# EAGLE library part MOLEX-53780-0670 (library con-Molex-53780)
Molex 53780 8-way right-angle SMD
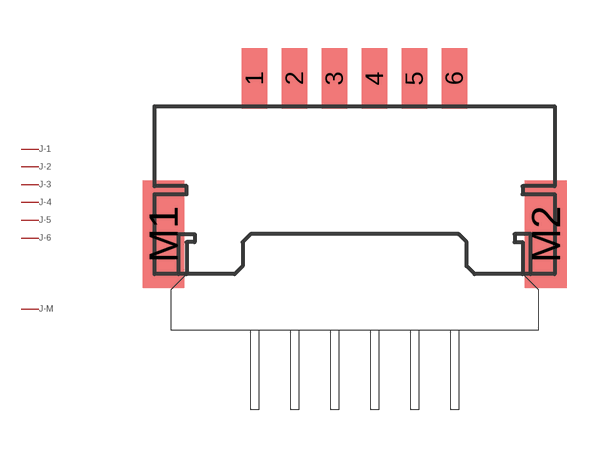
[diagram p2: symbol with the pads of 53780-0670; footprint 53780-0670]

Designator prefix J; gates -1=PIN -2=PIN -3=PIN -4=PIN -5=PIN -6=PIN -M=PIN

## MOLEX-53780-0670  [53780-0670]
1  -1:P
2  -2:P
3  -3:P
4  -4:P
5  -5:P
6  -6:P
M1  -M:P
M2  -M:P

## Footprint 53780-0670 (pad centres in mm)
smd 0.8 x 1.9: 1 -3.125,4.875; 2 -1.875,4.875; 3 -0.625,4.875; 4 0.625,4.875; 5 1.875,4.875; 6 3.125,4.875
smd 1.3 x 3.35: M1 -5.975,0; M2 5.975,0